# Altium schematic symbol library Schlib1.SchLib: 5 symbols
Pins are listed as number, name and electrical type; pins without a type are passive.

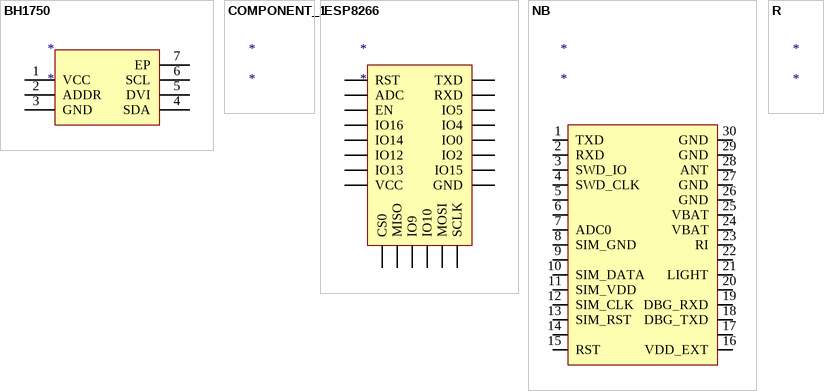
[diagram p0: symbols BH1750 to R]

## BH1750
designator *
pins: 1 VCC, 2 ADDR, 3 GND, 4 SDA, 5 DVI, 6 SCL, 7 EP

## COMPONENT_1
designator *

## ESP8266
designator *
pins: 34 RST, 35 ADC, 36 EN, 37 IO16, 38 IO14, 39 IO12, 40 IO13, 41 VCC, 42 CS0, 43 MISO, 44 IO9, 45 IO10, 46 MOSI, 47 SCLK, 48 TXD, 49 RXD, 50 IO5, 51 IO4, 52 IO0, 53 IO2, 54 IO15, 55 GND

## NB
designator *
pins: 1 TXD, 2 RXD, 3 SWD_IO, 4 SWD_CLK, 5 41, 6 42, 7 ADC0, 8 SIM_GND, 9 45, 10 SIM_DATA, 11 SIM_VDD, 12 SIM_CLK, 13 SIM_RST, 14, 15 RST, 16 VDD_EXT, 17, 18 DBG_TXD, 19 DBG_RXD, 20, 21 LIGHT, 22, 23 RI, 24 VBAT, 25 VBAT, 26 GND, 27 GND, 28 ANT, 29 GND, 30 GND

## R
designator *